# EAGLE library part RASPI3_GPIO (library PacMan)
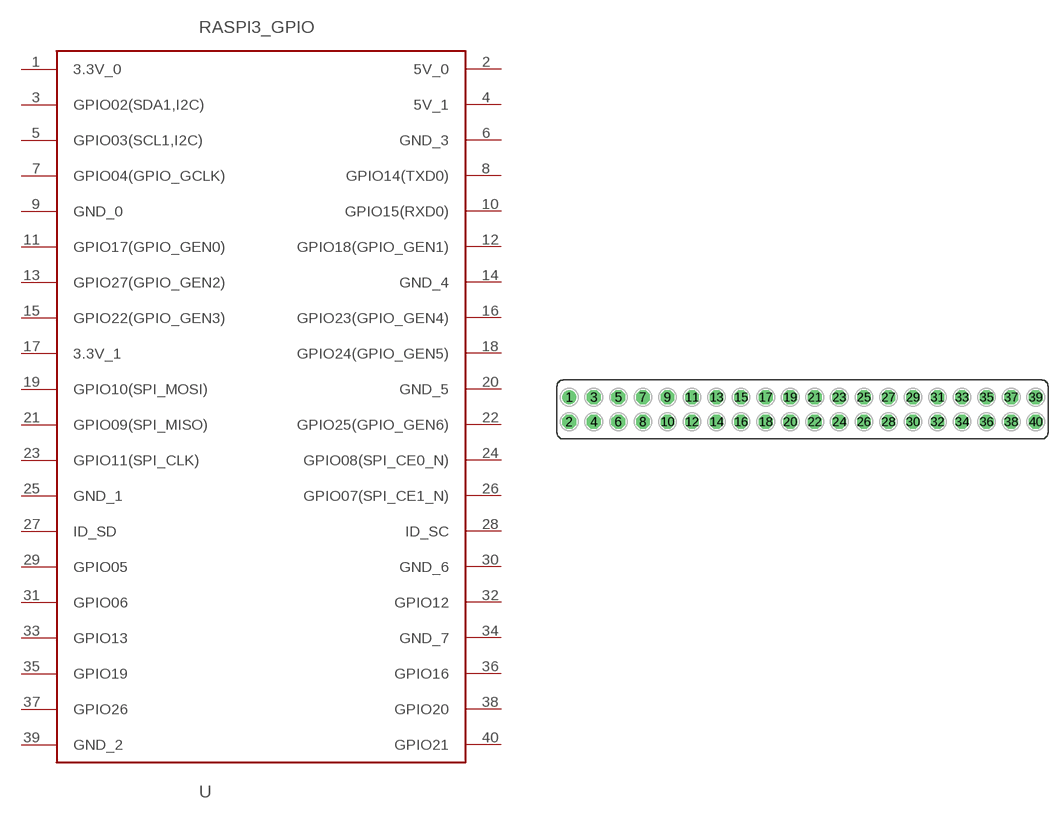
[diagram p1: symbol with the pads of FE20-2; footprint FE20-2]

Designator prefix -

## RASPI3_GPIO  [FE20-2]
1  3.3V_0
2  5V_0
3  GPIO02(SDA1,I2C)
4  5V_1
5  GPIO03(SCL1,I2C)
6  GND_3
7  GPIO04(GPIO_GCLK)
8  GPIO14(TXD0)
9  GND_0
10  GPIO15(RXD0)
11  GPIO17(GPIO_GEN0)
12  GPIO18(GPIO_GEN1)
13  GPIO27(GPIO_GEN2)
14  GND_4
15  GPIO22(GPIO_GEN3)
16  GPIO23(GPIO_GEN4)
17  3.3V_1
18  GPIO24(GPIO_GEN5)
19  GPIO10(SPI_MOSI)
20  GND_5
21  GPIO09(SPI_MISO)
22  GPIO25(GPIO_GEN6)
23  GPIO11(SPI_CLK)
24  GPIO08(SPI_CE0_N)
25  GND_1
26  GPIO07(SPI_CE1_N)
27  ID_SD
28  ID_SC
29  GPIO05
30  GND_6
31  GPIO06
32  GPIO12
33  GPIO13
34  GND_7
35  GPIO19
36  GPIO16
37  GPIO26
38  GPIO20
39  GND_2
40  GPIO21

## Footprint FE20-2 (pad centres in mm)
FEMALE HEADER
drill 0.914: 1 -24.13,1.27
drill 0.914 octagon: 2 -24.13,-1.27; 3 -21.59,1.27; 4 -21.59,-1.27; 5 -19.05,1.27; 6 -19.05,-1.27; 7 -16.51,1.27; 8 -16.51,-1.27; 9 -13.97,1.27; 10 -13.97,-1.27; 11 -11.43,1.27; 12 -11.43,-1.27; 13 -8.89,1.27; 14 -8.89,-1.27; 15 -6.35,1.27; 16 -6.35,-1.27; 17 -3.81,1.27; 18 -3.81,-1.27; 19 -1.27,1.27; 20 -1.27,-1.27; 21 1.27,1.27; 22 1.27,-1.27; 23 3.81,1.27; 24 3.81,-1.27; 25 6.35,1.27; 26 6.35,-1.27; 27 8.89,1.27; 28 8.89,-1.27; 29 11.43,1.27; 30 11.43,-1.27; 31 13.97,1.27; 32 13.97,-1.27; 33 16.51,1.27; 34 16.51,-1.27; 35 19.05,1.27; 36 19.05,-1.27; 37 21.59,1.27; 38 21.59,-1.27; 39 24.13,1.27; 40 24.13,-1.27